# Altium footprint library SerialConnector.PcbLib: 1 footprints
Each footprint in its own frame and in the unit in brackets; x right, y up, seen from the top. Pads: shape width x height; smd on the part's side, far side on the other; paste and mask are expansions set on the pad; w line width, h text height; cw(c..) or ccw(c..) is an arc to the next point about the centre after c.
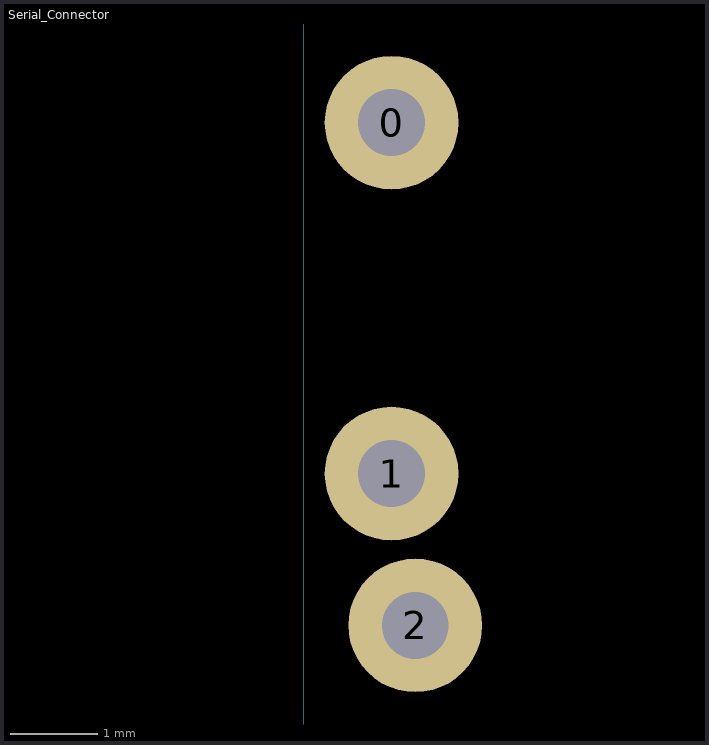
[diagram p0: the footprint, top view; thin cyan lines are the x and y axes]

## Serial_Connector [mil]
pads (3):
  round 60 hole 30: 0(39.37,275.59) 1(39.37,118.11) 2(50,50)
Top Layer:
  region: -30,165
  region: -35,130
3D body: height 393.7, standoff 0, extent 0,0 100,300